# Altium footprint library PCB - ANTENNA - ANTENOVA SR4L002.PCBLIB: 1 footprints
Each footprint in its own frame and in the unit in brackets; x right, y up, seen from the top. Pads: shape width x height; smd on the part's side, far side on the other; paste and mask are expansions set on the pad; w line width, h text height; cw(c..) or ccw(c..) is an arc to the next point about the centre after c.
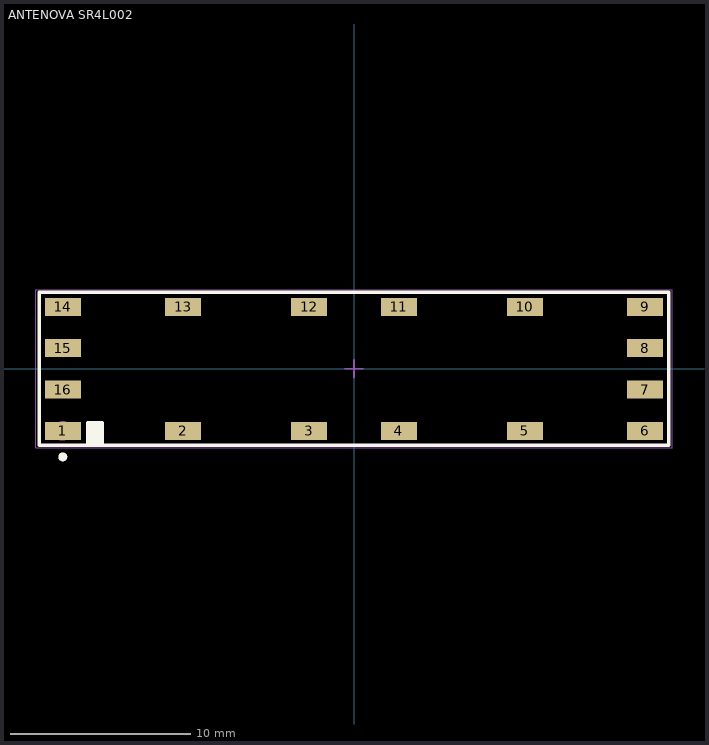
[diagram p0: the footprint, top view; thin cyan lines are the x and y axes]

## ANTENOVA SR4L002 [mm] "Antenna, 16-leads, Body 35x8.5x3.3mm,  IPC Medium Density"
height 3.3
pads (16):
  rect 2x1 smd: 1(-16.2,-3.45) 2(-9.5,-3.45) 3(-2.5,-3.45) 4(2.5,-3.45) 5(9.5,-3.45) 6(16.2,-3.45) 7(16.2,-1.15) 8(16.2,1.15) 9(16.2,3.45) 10(9.5,3.45) 11(2.5,3.45) 12(-2.5,3.45) 13(-9.5,3.45) 14(-16.2,3.45) 15(-16.2,1.15) 16(-16.2,-1.15)
Top Overlay:
  circle w0.25: c-16.2,-4.9 r0.125
  rectangle: -14.8,-4.2 -14,-3
  region: -14.9,-4.2
  lines w0.2: -14.8,-4.2 -14.8,-3 -14,-3 -14,-4.2 ; -17.5,-4.25 17.5,-4.25 17.5,4.25 -17.5,4.25 -17.5,-4.25
Mechanical 13:
  circle w0.1: c-16.2,-3.45 r0.5
  lines w0.1: -17.5,-4.25 -17.5,4.25 17.5,4.25 17.5,-4.25 -17.5,-4.25
Mechanical 15:
  lines w0.05: -17.7,-4.4 17.7,-4.4 17.7,4.4 -17.7,4.4 -17.7,-4.4
  lines w0.1: -0.5,0 0.5,0 ; 0,-0.5 0,0.5
3D body "Antenova - SR4L002.step": height 3.45, standoff -0.05, extent -17.5,-4.25 17.5,4.25